# Altium schematic symbol library H11AA1SR2M.SchLib: 1 symbol
Pins are listed as number, name and electrical type; pins without a type are passive.

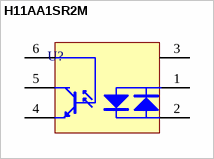
[diagram p0: symbol H11AA1SR2M]

## H11AA1SR2M
designator U?
pins: 1 Anode, 2 Cathode, 3 NC, 4 Emitter, 5 Collector, 6 Collector